# EAGLE library part CAM-M8 (library CarTalk)
IC RECEIVER GPS CHIP ANT 31LCC RF Receiver BeiDou, GLONASS, GNSS, GPS 1.575GHz -167dBm On-Board, Chip Module
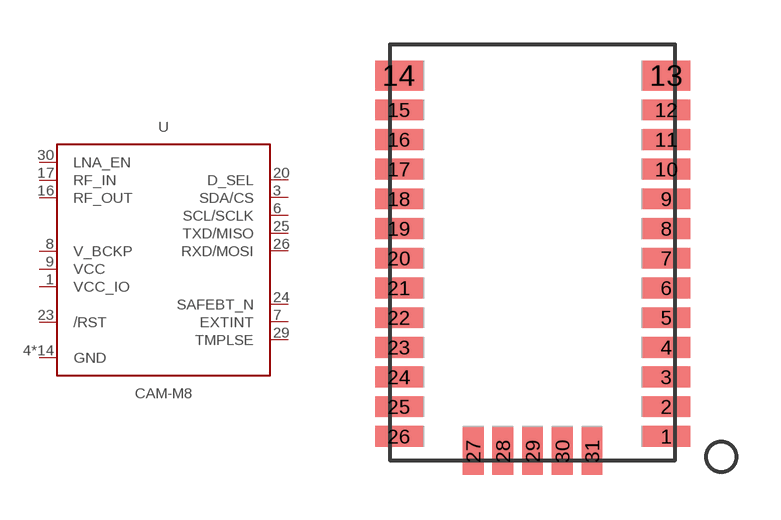
[diagram p1: symbol with the pads of CAM-M8; footprint CAM-M8]

Designator prefix -

## CAM-M8 (MFG: U-Blox America Inc.; MPN: CAM-M8Q-0; PN-DK: 672-1013-1-ND)  [CAM-M8]
1  VCC_IO
3  SDA/CS
4  GND
5  GND
6  SCL/SCLK
7  EXTINT
8  V_BCKP
9  VCC
10  GND
11  GND
12  GND
13  GND
14  GND
15  GND
16  RF_OUT
17  RF_IN
18  GND
19  GND
20  D_SEL
21  GND
22  GND
23  /RST
24  SAFEBT_N
25  TXD/MISO
26  RXD/MOSI
27  GND
29  TMPLSE
30  LNA_EN
31  GND

## Footprint CAM-M8 (pad centres in mm)
smd 1.6 x 0.7: 1 4.5,-6.2; 2 4.5,-5.2; 3 4.5,-4.2; 4 4.5,-3.2; 5 4.5,-2.2; 6 4.5,-1.2; 7 4.5,-0.2; 8 4.5,0.8; 9 4.5,1.8; 10 4.5,2.8; 11 4.5,3.8; 12 4.5,4.8; 15 -4.5,4.8; 16 -4.5,3.8; 17 -4.5,2.8; 18 -4.5,1.8; 19 -4.5,0.8; 20 -4.5,-0.2; 21 -4.5,-1.2; 22 -4.5,-2.2; 23 -4.5,-3.2; 24 -4.5,-4.2; 25 -4.5,-5.2; 26 -4.5,-6.2
smd 1.6 x 1: 13 4.5,5.95; 14 -4.5,5.95
smd 0.7 x 1.6: 27 -2,-6.7; 28 -1,-6.7; 29 0,-6.7; 30 1,-6.7; 31 2,-6.7